# EAGLE library part 653010114822 (library WR-WTB)
WR-WTB 1.25 mm Male Vertical Shrouded Header Material Properties Insulator Material PA9T Insulator Flammability Rating UL94 V-0 Color Ivory Contact Material Copper Alloy Contact Plating Tin Contact Type Stamped Certification UL Approval E323964 General Information Operating Temperature -40 °C up to +85 °C Compliance RoHS IR 1 A Working Voltage 125 V (AC) Withstanding Voltage 250 V (AC) Contact Resistance 20 mΩ RISO 100 MΩ Pitch 1.25 mm Gender Male Type Vertical Packaging Properties Packaging Bag; Tube <https://www.we-online.com/components/media/o33370v209%20Multi-WR-WTB125-6530xx114822.jpg> Details see: www.we-online.com/en/components/products/WTB_1_25_MALE_VERTICAL_SHROUDED_HEADER_6530XX114822 <www.we-online.com/catalog/WTB_1_25_MALE_VERTICAL_SHROUDED_HEADER_6530XX114822/?utm_source=eagle_model&utm_medium=description_link&utm_campaign=eisos_eagle> Updated by Ella 2025-03-06 2025 (C) Würth Elektronik
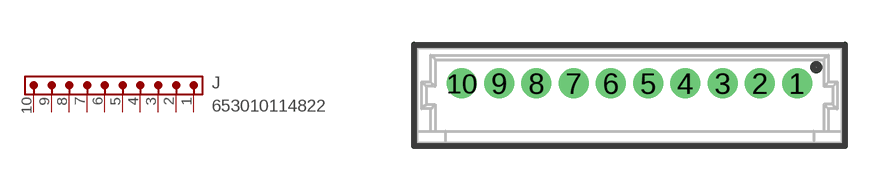
[diagram p76: symbol with the pads of 653010114822; footprint 653010114822]

Designator prefix J

## 653010114822 (CONTACT-RESISTANCE: 20mOhm; DATASHEET-URL: https://www.we-online.com/redexpert/spec/653010114822?ae; GENDER: Male; IR: 1A; L: 14.25mm; MOUNT: THT; PACKAGING: Tube; PART-NUMBER: 653010114822; PCB-CABLE-PANEL: PCB; PINS: 10; PITCH: 1.25mm; TYPE: Vertical; VALUE: 653010114822; WORKING-VOLTAGE: 125V(AC))  [653010114822]
1  1  pas
2  2  pas
3  3  pas
4  4  pas
5  5  pas
6  6  pas
7  7  pas
8  8  pas
9  9  pas
10  10  pas

## Footprint 653010114822 (pad centres in mm)
WR-WTB 1.25 mm Male Vertical Shrouded Header,10 Pins
drill 0.5 pad 0.8: 1 5.625,0.4; 2 4.375,0.4; 3 3.125,0.4; 4 1.875,0.4; 5 0.625,0.4; 6 -0.625,0.4; 7 -1.875,0.4; 8 -3.125,0.4; 9 -4.375,0.4; 10 -5.625,0.4